# Altium schematic symbol library Relais.SchLib: 4 symbols
Pins are listed as number, name and electrical type; pins without a type are passive.

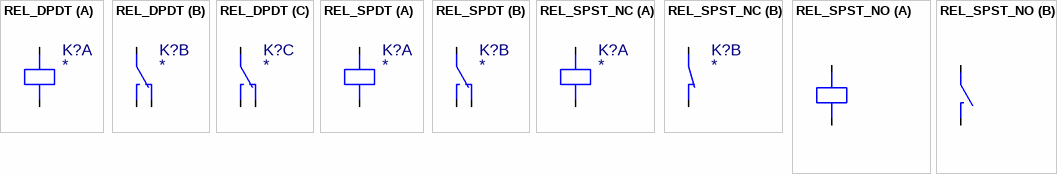
[diagram p0: symbols REL_DPDT to REL_SPST_NO]

## REL_DPDT
designator K?
part A pins: 1, 2
part B pins: 3 COM1, 4 NC1, 5 NO1
part C pins: 6 COM2, 7 NC2, 8 NO2

## REL_SPDT
designator K?
part A pins: 1, 2
part B pins: 3 COM1, 4 NC1, 5 NO1

## REL_SPST_NC
designator K?
part A pins: 1, 2
part B pins: 3 COM1, 4 NC1

## REL_SPST_NO
designator K?
part A pins: 1, 2
part B pins: 3 COM1, 4 NO1